# EAGLE library part WS2812B (library BadgeParts)
WS2812B SMD addressable RGB LED 5x5mm SMD LED with built-in controller IC. Color: Red/Green/Blue mC Rating: RGB: 390, 660, 180 mcd Forward Voltage: RGB: 2.0, 3.0, 3.0 V Packages:WS2812B SparkFun Products: Blynk Board - ESP8266 <https://www.sparkfun.com/products/13794>
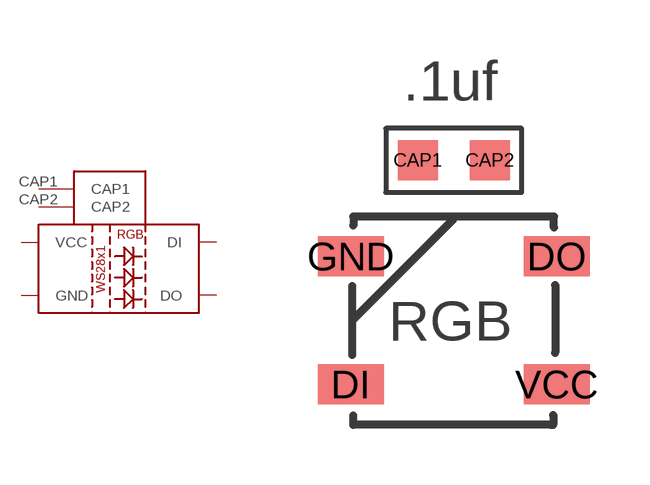
[diagram p9: symbol with the pads of WS2812B; footprint WS2812B]

Designator prefix D

## WS2812B (PROD_ID: DIO-12503; VALUE: WS2812B)  [WS2812B]
CAP1  CAP1
CAP2  CAP2
DI  DI
DO  DO
GND  GND
VCC  VCC

## Footprint WS2812B (pad centres in mm)
WS2812B Specifications: Pin count: 4 Size: 5.0 x 5.0 mm Datasheet referenced for footprint: WS2812B <http://cdn.sparkfun.com/datasheets/BreakoutBoards/WS2812B.pdf> Example device: WS2812B
smd 1 x 1: CAP1 -0.9,4; CAP2 0.9,4
smd 1.651 x 1: DI -2.577,-1.6; DO 2.577,1.6; GND -2.577,1.6; VCC 2.577,-1.6